# Altium footprint library PcbLib1.PcbLib: 29 footprints (part 2 of 2)
Each footprint in its own frame and in the unit in brackets; x right, y up, seen from the top. Pads: shape width x height; smd on the part's side, far side on the other; paste and mask are expansions set on the pad; w line width, h text height; cw(c..) or ccw(c..) is an arc to the next point about the centre after c.
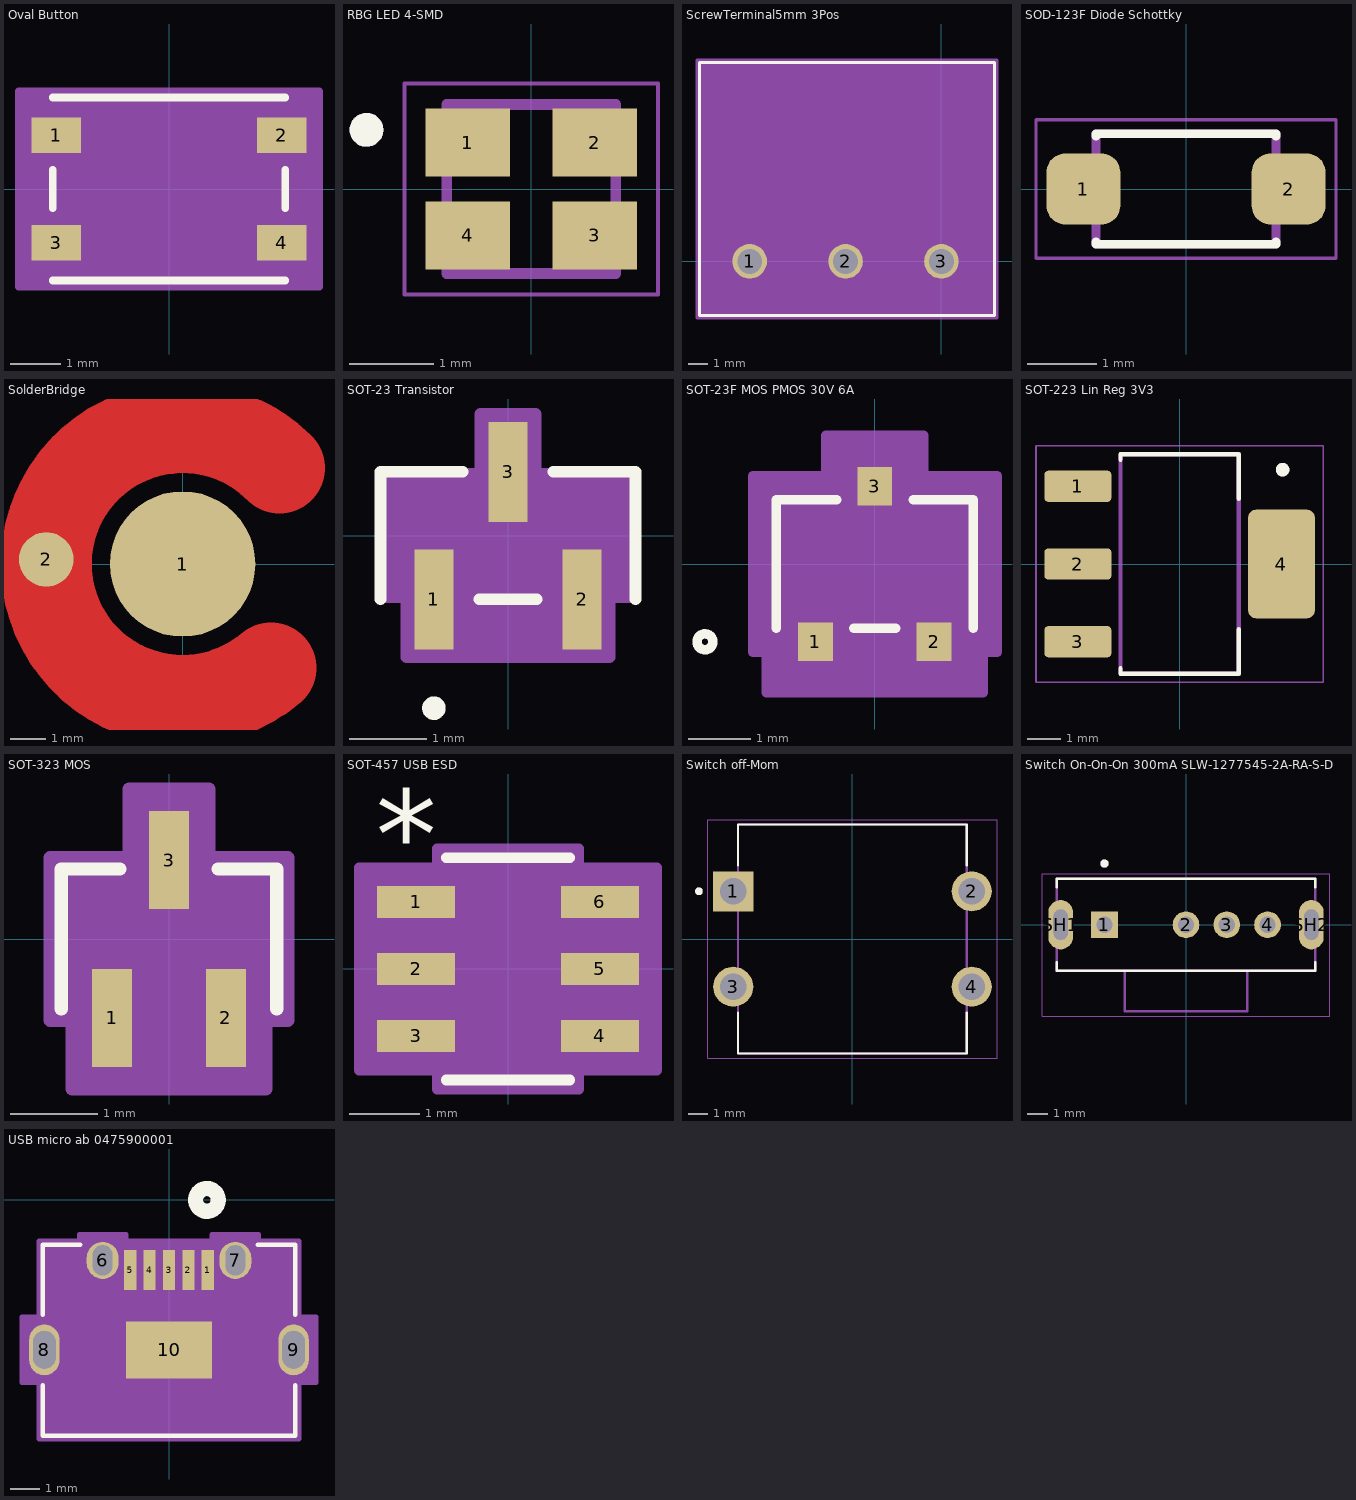
[diagram p1: the footprints below, top view; thin cyan lines are the x and y axes]

## Oval Button [mil]
pads (4):
  rect 39x28 smd paste+0 mask+5: 1(-88.58,42.32) 2(88.58,42.32) 3(-88.58,-42.32) 4(88.58,-42.32)
Top Overlay:
  lines w6: -91.5,-72 91.5,-72 ; -91.5,-15.22 -91.5,15.22 ; -91.5,72 91.5,72 ; 91.5,-15.22 91.5,15.22
Mechanical 13:
  lines w1: -86.5,-67 -86.5,67 86.5,67 86.5,-67 -86.5,-67
Mechanical 15:
  region: 118.08,77 -118.08,77 -118.08,-77 118.08,-77
  lines w6: -118.08,-77 118.08,-77 118.08,77 -118.08,77 -118.08,-77

## RBG LED 4-SMD [mm]
pads (4):
  rect 1x0.8 smd mask+0: 1(-0.75,0.55) 2(0.75,0.55) 3(0.75,-0.55) 4(-0.75,-0.55)
Top Overlay:
  circle w0.2: c-1.95,0.7 r0.1
Mechanical 13:
  circle w0.2: c-1.95,0.7 r0.1
  lines w0.127: -1,-1 1,-1 1,1 -1,1 -1,-1
Mechanical 15:
  lines w0.05: -1.5,-1.25 1.5,-1.25 1.5,1.25 -1.5,1.25 -1.5,-1.25

## ScrewTerminal5mm 3Pos [mil]
pads (3):
  round 71 / inner round 60 / far side round 71 hole 51 paste-99999 mask+0: 1(-393.7,0) 2(-196.85,0) 3(0,0)
Top Overlay:
  lines w6: -496.89,-111.46 -496.89,408.54 109.11,408.54 109.11,-111.46 -496.89,-111.46
Mechanical 13:
  lines w1: -491.89,-106.46 -491.89,403.54 104.11,403.54 104.11,-106.46 -491.89,-106.46
Mechanical 15:
  region: 114.11,413.54 -501.89,413.54 -501.89,-116.46 114.11,-116.46
  lines w6: -501.89,-116.46 114.11,-116.46 114.11,413.54 -501.89,413.54 -501.89,-116.46

## SOD-123F Diode Schottky [mm]
pads (2):
  rrect53% 1.07x1.03 smd: 1(-1.485,0) 2(1.485,0)
Top Overlay:
  lines w0.127: -1.3,-0.762 -1.3,-0.8 1.3,-0.8 1.3,-0.762 ; -1.3,0.762 -1.3,0.8 1.3,0.8 1.3,0.762
Mechanical 13:
  lines w0.127: -1.3,-0.8 -1.3,0.8 1.3,0.8 1.3,-0.8 -1.3,-0.8
Mechanical 15:
  lines w0.05: -2.17,-1 -2.17,1 2.17,1 2.17,-1 -2.17,-1
3D body "step_temp.STEP": height 0.9, standoff 0, extent -1.75,-0.8 1.75,0.8

## SolderBridge [mil]
pads (2):
  round 160 smd: 1(0,0)
  round 60 smd: 2(-150,5)
Top Layer:
  lines w100: 97.16,-114.28 cw(c0,0) 106.58,105.55

## SOT-23 Transistor [mil]
pads (3):
  rect 20x51 smd paste+0 mask+3: 1(-37.75,-32.5) 2(37.75,-32.5) 3(0,32.5)
Top Overlay:
  circle w6: c-37.75,-88 r3
  lines w6: -65,-32.5 -65,32.5 -23.1,32.5 ; -14.65,-32.5 14.65,-32.5 ; 23.1,32.5 65,32.5 65,-32.5
Mechanical 13:
  circle w0: c-37.75,-17.5 r3
  lines w1: -60,-27.5 -60,27.5 60,27.5 60,-27.5 -60,-27.5 ; -47.75,-52 -27.75,-52 -27.75,-27.5 -47.75,-27.5 -47.75,-52 ; -10,27.5 -10,52 10,52 10,27.5 -10,27.5 ; 27.75,-52 47.75,-52 47.75,-27.5 27.75,-27.5 27.75,-52
Mechanical 15:
  region: -64,-31.5 -64,31.5 -14,31.5 -14,62 14,62 14,31.5 64,31.5 64,-31.5 51.75,-31.5 51.75,-62 -51.75,-62 -51.75,-31.5
  lines w6: -64,-31.5 -51.75,-31.5 -51.75,-62 51.75,-62 51.75,-31.5 64,-31.5 64,31.5 14,31.5 14,62 -14,62 -14,31.5 -64,31.5 -64,-31.5
3D body "SOT-23_MCC.step": height 48.11, standoff 0, extent -60,-52.01 60,52.01

## SOT-23F MOS PMOS 30V 6A [mil]
pads (3):
  rect 22x24 smd paste+0 mask+2: 1(-37.4,-49) 2(37.4,-49) 3(0,49)
Top Overlay:
  circle w6: c-107,-49 r5
  lines w6: -62,-40.5 -62,40.5 -24.1,40.5 ; -13.3,-40.5 13.3,-40.5 ; 24.1,40.5 62,40.5 62,-40.5
Mechanical 13:
  circle w0: c-47,-25.5 r5
  lines w1: -57,-35.5 -57,35.5 57,35.5 57,-35.5 -57,-35.5 ; -47.4,-49 -27.4,-49 -27.4,-35.5 -47.4,-35.5 -47.4,-49 ; -10,35.5 -10,49 10,49 10,35.5 -10,35.5 ; 27.4,-49 47.4,-49 47.4,-35.5 27.4,-35.5 27.4,-49
Mechanical 15:
  region: 57,-35.5 -57,-35.5 -57,35.5 57,35.5
  region: -77,-55.5 -77,55.5 -30,55.5 -30,81 30,81 30,55.5 77,55.5 77,-55.5 67.4,-55.5 67.4,-81 -67.4,-81 -67.4,-55.5
  lines w6: -77,-55.5 -68.4,-55.5 -68.4,-81 68.4,-81 68.4,-55.5 77,-55.5 77,55.5 31,55.5 31,81 -31,81 -31,55.5 -77,55.5 -77,-55.5
3D body "SOT-23F_TOS.step": height 37.09, standoff 0, extent -57.01,-43.01 57.01,43.01

## SOT-223 Lin Reg 3V3 [mm]
pads (4):
  rrect25% 1.98x0.93 smd: 1(-3.015,2.3) 2(-3.015,0) 3(-3.015,-2.3)
  rrect25% 1.98x3.23 smd: 4(3.015,0)
Top Overlay:
  circle w0.2: c3.048,2.794 r0.1
  lines w0.127: -1.75,-3.085 -1.75,-3.25 1.75,-3.25 1.75,-1.935 ; -1.75,3.085 -1.75,3.25 1.75,3.25 1.75,1.935
Mechanical 13:
  circle w0.2: c3.048,2.794 r0.1
  lines w0.127: -1.75,-3.25 1.75,-3.25 1.75,3.25 -1.75,3.25 -1.75,-3.25
Mechanical 15:
  lines w0.05: -4.255,-3.5 4.255,-3.5 4.255,3.5 -4.255,3.5 -4.255,-3.5

## SOT-323 MOS [mil]
pads (3):
  rect 18x44 smd paste+0 mask+0: 1(-25.59,-35.5) 2(25.59,-35.5) 3(0,35.5)
Top Overlay:
  lines w6: -48.5,-31.5 -48.5,31.5 -22.1,31.5 ; 22.1,31.5 48.5,31.5 48.5,-31.5
Mechanical 13:
  lines w1: -43.5,-26.5 43.5,-26.5 43.5,26.5 -43.5,26.5 -43.5,-26.5 ; -33.59,-43.5 -33.59,-26.5 -17.59,-26.5 -17.59,-43.5 -33.59,-43.5 ; -8,26.5 8,26.5 8,43.5 -8,43.5 -8,26.5 ; 17.59,-43.5 17.59,-26.5 33.59,-26.5 33.59,-43.5 17.59,-43.5
Mechanical 15:
  region: -53.5,-36.5 -53.5,36.5 -18,36.5 -18,67.5 18,67.5 18,36.5 53.5,36.5 53.5,-36.5 43.59,-36.5 43.59,-67.5 -43.59,-67.5 -43.59,-36.5
  lines w6: -53.5,-36.5 -53.5,36.5 -18,36.5 -18,67.5 18,67.5 18,36.5 53.5,36.5 53.5,-36.5 43.59,-36.5 43.59,-67.5 -43.59,-67.5 -43.59,-36.5 -53.5,-36.5
3D body "SOT_12UW-7_DIO.step": height 39.09, standoff 0, extent -43.5,-43.5 43.5,43.5

## SOT-457 USB ESD [mil]
pads (6):
  rect 43.5x18 smd paste+0 mask+0: 1(-51.25,37.4) 2(-51.25,0) 3(-51.25,-37.4) 4(51.25,-37.4) 5(51.25,0) 6(51.25,37.4)
Top Overlay:
  lines w6: -34.5,-62 34.5,-62 ; -34.5,62 34.5,62
  text "*" at -73.75,50.4 h50
Mechanical 13:
  lines w0: -12,57 ccw(c0,57) 12,57
  lines w1: -59,-45.4 -59,-29.4 -29.5,-29.4 -29.5,-45.4 -59,-45.4 ; -59,-8 -59,8 -29.5,8 -29.5,-8 -59,-8 ; -59,29.4 -59,45.4 -29.5,45.4 -29.5,29.4 -59,29.4 ; -29.5,-57 29.5,-57 29.5,57 -29.5,57 -29.5,-57 ; 29.5,-45.4 29.5,-29.4 59,-29.4 59,-45.4 29.5,-45.4 ; 29.5,-8 29.5,8 59,8 59,-8 29.5,-8 ; 29.5,29.4 29.5,45.4 59,45.4 59,29.4 29.5,29.4
  text "*" at -27,4 h50
Mechanical 15:
  region: -39.5,-56.4 -83,-56.4 -83,56.4 -39.5,56.4 -39.5,67 39.5,67 39.5,56.4 83,56.4 83,-56.4 39.5,-56.4 39.5,-67 -39.5,-67
  lines w6: -83,-56.4 -83,56.4 -39.5,56.4 -39.5,67 39.5,67 39.5,56.4 83,56.4 83,-56.4 39.5,-56.4 39.5,-67 -39.5,-67 -39.5,-56.4 -83,-56.4
3D body "DIODE_SOT457_1P7X3P1_NEX.step": height 43.11, standoff 0, extent -59.02,-57.01 59.02,57.01

## Switch off-Mom [mm]
pads (4):
  rect 2.1x2.1 / inner round 2.1 / far side rect 2.1x2.1 hole 1.4: 1(-6.25,2.5)
  round 2.1 hole 1.4: 2(6.25,2.5) 3(-6.25,-2.5) 4(6.25,-2.5)
Top Overlay:
  circle w0.2: c-8.05,2.5 r0.1
  lines w0.127: -6,-3.87 -6,-6 6,-6 6,-3.87 ; -6,3.87 -6,6 6,6 6,3.87
Mechanical 13:
  circle w0.2: c-8.05,2.5 r0.1
  lines w0.127: -6,-6 -6,6 6,6 6,-6 -6,-6
Mechanical 15:
  lines w0.05: -7.575,-6.25 -7.575,6.25 7.575,6.25 7.575,-6.25 -7.575,-6.25
3D body "step_temp.STEP": height 7.36, standoff -3.5, extent -7.049,-6 7.049,6

## Switch On-On-On 300mA SLW-1277545-2A-RA-S-D [mm]
pads (6):
  rect 1.308x1.308 / inner round 1.308 / far side rect 1.308x1.308 hole 0.8: 1(-4,0)
  round 1.308 hole 0.8: 2(0,0) 3(2,0) 4(4,0)
  oval 1.208x2.416 hole 0.7 slot 1.5 at 90 deg: SH1(-6.15,0) SH2(6.15,0)
Top Overlay:
  circle w0.2: c-4,3 r0.1
  lines w0.127: -6.35,-1.85 -6.35,-2.25 6.35,-2.25 6.35,-1.85 ; -6.35,1.85 -6.35,2.25 6.35,2.25 6.35,1.85
Mechanical 13:
  circle w0.2: c-4,3 r0.1
  lines w0.127: -3,-2.25 -3,-4.25 3,-4.25 3,-2.25 ; -3,-2.25 3,-2.25 ; -3,-2.25 -6.35,-2.25 -6.35,2.25 6.35,2.25 6.35,-2.25 3,-2.25
Mechanical 15:
  lines w0.05: -7.05,-4.5 7.05,-4.5 7.05,2.5 -7.05,2.5 -7.05,-4.5

## USB micro ab 0475900001 [mil]
pads (10):
  rect 16x53 smd paste+0 mask+0: 1(51.18,-92.46) 2(25.59,-92.46) 3(0,-92.46) 4(-25.59,-92.46) 5(-51.18,-92.46)
  oval 42x49 / inner round 60 / far side oval 42x49 hole 26 slot 40 at 90 deg paste-99999 mask+0: 6(-87.6,-79.66) 7(87.6,-79.66)
  oval 40x67 / inner round 60 / far side oval 40x67 hole 30 slot 50 at 90 deg paste-99999 mask+0: 8(-164.37,-197.77) 9(164.37,-197.77)
  rect 114x75 smd paste-57 mask-57: 10(0,-197.77)
Top Overlay:
  circle w20: c50,0 r15
  lines w6: -166.5,-244.3 -166.5,-310.91 166.5,-310.91 166.5,-244.3 ; -166.5,-151.24 -166.5,-58.91 -117.01,-58.91 ; 117.01,-58.91 166.5,-58.91 166.5,-151.24
Bottom Overlay:
  circle w20: c50,0 r15
Mechanical 13:
  circle w20: c150,-96 r15
  lines w1: -161.5,-305.91 161.5,-305.91 161.5,-63.91 -161.5,-63.91 -161.5,-305.91
Mechanical 15:
  region: 171.5,-53.91 118.6,-53.91 118.6,-45.16 56.6,-45.16 56.6,-53.91 -56.6,-53.91 -56.6,-45.16 -118.6,-45.16 -118.6,-53.91 -171.5,-53.91 -171.5,-154.27 -194.37,-154.27 -194.37,-241.27 -171.5,-241.27 -171.5,-315.91 171.5,-315.91 171.5,-241.27 194.37,-241.27 194.37,-154.27 171.5,-154.27
  lines w6: -194.37,-241.27 -194.37,-154.27 -171.5,-154.27 -171.5,-53.91 -118.6,-53.91 -118.6,-45.16 -56.6,-45.16 -56.6,-53.91 56.6,-53.91 56.6,-45.16 118.6,-45.16 118.6,-53.91 171.5,-53.91 171.5,-154.27 194.37,-154.27 194.37,-241.27 171.5,-241.27 171.5,-315.91 -171.5,-315.91 -171.5,-241.27 -194.37,-241.27